# Altium footprint library IMX6UL_ALPHA_PCB.PcbLib: 56 footprints (part 1 of 4)
Each footprint in its own frame and in the unit in brackets; x right, y up, seen from the top. Pads: shape width x height; smd on the part's side, far side on the other; paste and mask are expansions set on the pad; w line width, h text height; cw(c..) or ccw(c..) is an arc to the next point about the centre after c.
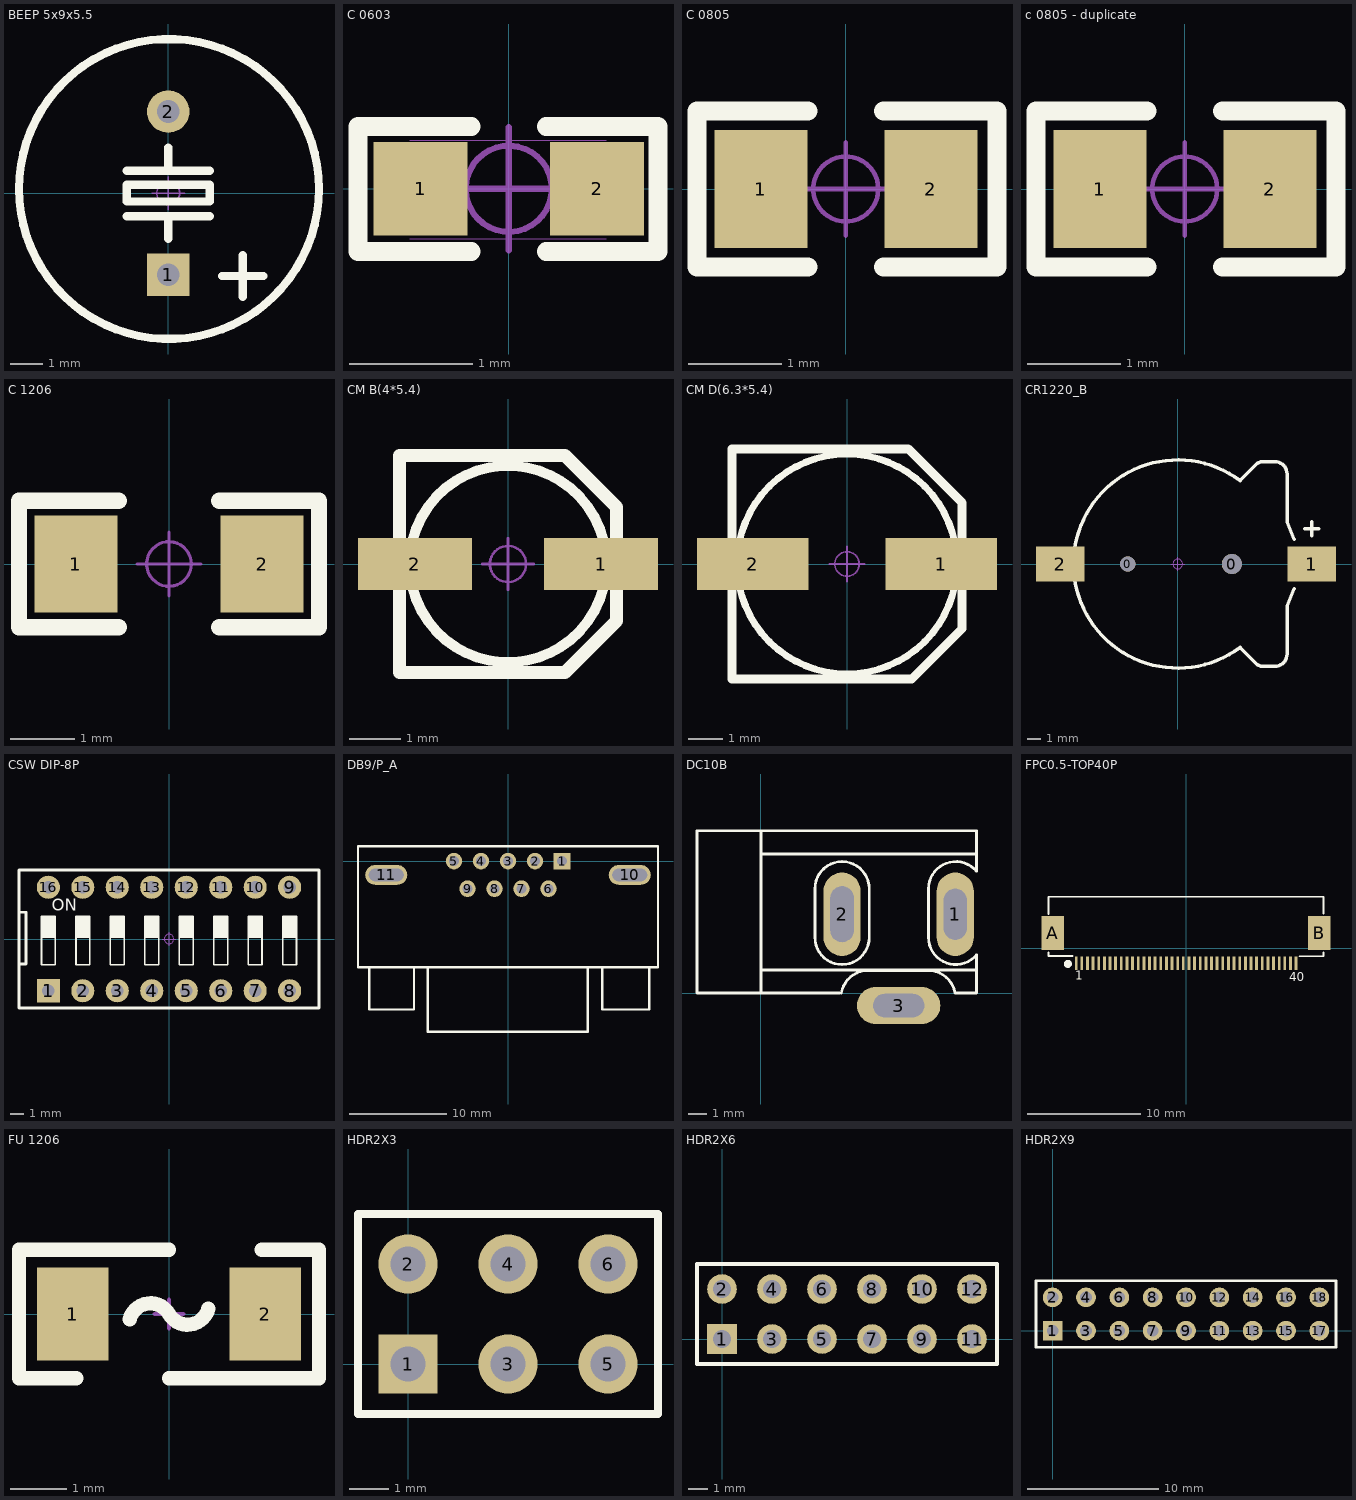
[diagram p0: the footprints below, top view; thin cyan lines are the x and y axes]

## BEEP 5x9x5.5 [mm]
pads (2):
  rect 1.3x1.3 hole 0.7: 1(0,-2.5)
  round 1.3 hole 0.7: 2(0,2.5)
Top Overlay:
  circle w0.254: c0.023,0.127 r4.6
  lines w0.254: -1.27,-0.709 1.27,-0.709 ; -1.27,0.685 1.27,0.685 ; 0,-1.397 0,-0.709 ; 0,0.812 0,1.397 ; 1.651,-2.54 2.921,-2.54 ; 2.286,-3.175 2.286,-1.905 ; -1.27,-0.254 1.27,-0.254 1.27,0.254 -1.27,0.254 -1.27,-0.254
Mechanical 15:
  circle w0.05: c0,0 r0.35
  lines w0.05: -0.5,0 0.5,0 ; 0,-0.5 0,0.5
3D body "BEEP 5x9x5.5.STEP": height 5.45, standoff -3.55, extent -4.5,-4.5 4.5,4.5

## C 0603 [mil]
pads (2):
  rect 30x30 smd: 1(-28.25,0) 2(28.25,0)
Top Overlay:
  lines w6: -12,-20.06 -48.25,-20.06 -48.25,19.94 -12,19.94 ; 12,-20.06 47.75,-20.06 47.75,19.94 12,19.94
Mechanical 13:
  lines w0.39: -31.75,-16 31.25,-16 ; -31.75,15.5 31.25,15.5
Mechanical 15:
  circle w1.97: c0,0 r13.78
  lines w1.97: -19.68,0 19.68,0 ; 0,-19.68 0,19.68
3D body "C 0603.STEP": height 31.89, standoff -0.39, extent -31.5,-16.14 31.5,16.14

## C 0805 [mm]
pads (2):
  rect 1x1.27 smd: 1(-0.914,0) 2(0.914,0)
Top Overlay:
  lines w0.203: -0.406,-0.838 -1.6,-0.838 -1.6,0.838 -0.406,0.838 ; 0.406,-0.838 1.626,-0.838 1.626,0.838 0.406,0.838
Mechanical 15:
  circle w0.05: c0,0 r0.35
  lines w0.05: -0.5,0 0.5,0 ; 0,-0.5 0,0.5
3D body "C 0805.STEP": height 0.51, standoff -0.01, extent -1,-0.61 1,0.61

## c 0805 - duplicate [mm]
pads (2):
  rect 1x1.27 smd: 1(-0.914,0) 2(0.914,0)
Top Overlay:
  lines w0.203: -0.406,-0.838 -1.6,-0.838 -1.6,0.838 -0.406,0.838 ; 0.406,-0.838 1.626,-0.838 1.626,0.838 0.406,0.838
Mechanical 15:
  circle w0.05: c0,0 r0.35
  lines w0.05: -0.5,0 0.5,0 ; 0,-0.5 0,0.5
3D body "C 0805.STEP": height 0.51, standoff -0.01, extent -1,-0.61 1,0.61

## C 1206 [mil]
pads (2):
  rect 51.18x60 smd: 1(-57.5,0) 2(57.5,0)
Top Overlay:
  lines w10: -31,-39 -92.52,-39 -92.52,39 -31,39 ; 31,-39 92.52,-39 92.52,39 31,39
Mechanical 15:
  circle w1.97: c0,0 r13.78
  lines w1.97: -19.68,0 19.68,0 ; 0,-19.68 0,19.68
3D body "C 1206.STEP": height 47.64, standoff -0.39, extent -62.99,-31.89 62.99,31.89

## CM B(4*5.4) [mm]
pads (2):
  rect 2.2x1 smd: 1(1.8,0) 2(-1.8,0)
Top Overlay:
  circle w0.2: c0,0 r1.9
  lines w0.254: -2.1,-2.1 -2.1,2.1 1.1,2.1 2.1,1.1 2.1,-1.1 1.1,-2.1 -2.1,-2.1
Mechanical 15:
  circle w0.05: c0,0 r0.35
  lines w0.05: -0.5,0 0.5,0 ; 0,-0.5 0,0.5
3D body "CM B(4X5.4).STEP": height 5.4, standoff -0.01, extent -2.3,-2.125 2.3,2.175

## CM D(6.3*5.4) [mm]
pads (2):
  rect 3.2x1.5 smd: 1(2.7,0) 2(-2.7,0)
Top Overlay:
  circle w0.2: c0,0 r3.15
  lines w0.254: -3.3,-3.3 1.85,-3.3 3.3,-1.85 3.3,1.75 1.75,3.3 -3.3,3.3 -3.3,-3.3
Mechanical 15:
  circle w0.05: c0,0 r0.35
  lines w0.05: -0.5,0 0.5,0 ; 0,-0.5 0,0.5
3D body "CM D(6.3X5.4).STEP": height 5.4, standoff -0.01, extent -3.5,-3.3 3.5,3.3

## CR1220_B [mm]
pads (4):
  round 1.1 hole 1.1: 0(-3.6,0)
  round 1.45 hole 1.45: 0(3.9,0)
  rect 3.5x2.5 smd: 1(9.652,0) 2(-8.458,0)
Top Overlay:
  lines w0.254: 4.5,-6 cw(c0,0) 4.5,6 ; 4.572,-6.096 4.826,-6.35 5.662,-7.186 ccw(c6.096,-6.753) 6.096,-7.366 7.007,-7.366 ccw(c7.007,-6.499) 7.874,-6.499 7.874,-3.048 8.382,-1.778 ; 4.572,6.096 4.826,6.35 5.662,7.186 cw(c6.096,6.753) 6.096,7.366 7.007,7.366 cw(c7.007,6.499) 7.874,6.499 7.874,3.048 8.382,1.778 ; 9.144,2.54 10.16,2.54 ; 9.652,2.032 9.652,3.048
Mechanical 15:
  circle w0.05: c0,0 r0.35
  lines w0.05: -0.5,0 0.5,0 ; 0,-0.5 0,0.5
3D body "CR1220_B.STEP": height 4.05, standoff -0.85, extent -9.416,-7.45 10.34,7.45

## CSW DIP-8P [mm]
pads (16):
  rect 1.7x1.7 hole 0.9: 1(-8.89,-3.81)
  round 1.7 hole 0.9: 2(-6.35,-3.81) 3(-3.81,-3.81) 4(-1.27,-3.81) 5(1.27,-3.81) 6(3.81,-3.81) 7(6.35,-3.81) 8(8.89,-3.81) 9(8.89,3.81) 10(6.35,3.81) 11(3.81,3.81) 12(1.27,3.81) 13(-1.27,3.81) 14(-3.81,3.81) 15(-6.35,3.81) 16(-8.89,3.81)
Top Overlay:
  rectangle: 5.842,0.127 6.858,1.651
  rectangle: -9.398,0.127 -8.382,1.651
  rectangle: -6.858,0.127 -5.842,1.651
  rectangle: -4.318,0.127 -3.302,1.651
  rectangle: -1.778,0.127 -0.762,1.651
  rectangle: 0.762,0.127 1.778,1.651
  rectangle: 3.302,0.127 4.318,1.651
  rectangle: 8.382,0.127 9.398,1.651
  lines w0.127: -9.398,0.127 -8.382,0.127 ; -6.858,0.127 -5.842,0.127 ; -4.318,0.127 -3.302,0.127 ; -1.778,0.127 -0.762,0.127 ; 0.762,0.127 1.778,0.127 ; 3.302,0.127 4.318,0.127 ; 5.842,0.127 6.858,0.127 ; 8.382,0.127 9.398,0.127 ; -9.398,-1.905 -9.398,1.651 -8.382,1.651 -8.382,-1.905 -9.398,-1.905 ; -6.858,-1.905 -6.858,1.651 -5.842,1.651 -5.842,-1.905 -6.858,-1.905 ; -4.318,-1.905 -4.318,1.651 -3.302,1.651 -3.302,-1.905 -4.318,-1.905 ; -1.778,-1.905 -1.778,1.651 -0.762,1.651 -0.762,-1.905 -1.778,-1.905 ; 0.762,-1.905 0.762,1.651 1.778,1.651 1.778,-1.905 0.762,-1.905 ; 3.302,-1.905 3.302,1.651 4.318,1.651 4.318,-1.905 3.302,-1.905 ; 5.842,-1.905 6.858,-1.905 6.858,1.651 5.842,1.651 5.842,-1.905 ; 8.382,-1.905 8.382,1.651 9.398,1.651 9.398,-1.905 8.382,-1.905
  lines w0.2: -11.049,-5.08 -11.049,5.08 11.049,5.08 11.049,-5.08 -11.049,-5.08
  lines w0.203: -11.049,-1.841 -10.541,-1.841 -10.541,1.969 -11.049,1.968
  text "ON" at -8.636,1.778 h1.52
Mechanical 15:
  circle w0.05: c0,0 r0.35
  lines w0.05: -0.5,0 0.5,0 ; 0,-0.5 0,0.5
3D body "CSW DIP-8P.STEP": height 6.65, standoff -3.15, extent -10.94,-4.95 10.94,4.95

## DB9/P_A [mm]
pads (11):
  rect 1.7x1.7 hole 1: 1(5.546,0)
  round 1.7 hole 1: 2(2.773,0) 3(0,0) 4(-2.773,0) 5(-5.546,0) 6(4.155,-2.84) 7(1.385,-2.84) 8(-1.385,-2.84) 9(-4.155,-2.84)
  oval 4.318x2.032 hole 1.27 slot 3.556 at 0 deg: 10(12.5,-1.42) 11(-12.5,-1.42)
Top Overlay:
  lines w0.254: -14.224,-10.922 -14.224,-15.24 -9.652,-15.24 -9.652,-10.922 ; -8.225,-10.922 -8.225,-17.526 8.175,-17.526 8.175,-10.922 ; 9.652,-10.922 9.652,-15.24 14.478,-15.24 14.478,-10.922 ; -15.4,-10.922 -15.4,1.524 15.4,1.524 15.4,-10.922 -15.4,-10.922
Mechanical 15:
  circle w0.05: c0,0 r0.35
  lines w0.05: -0.5,0 0.5,0 ; 0,-0.5 0,0.5
3D body "DB9 ĸ_A.STEP": height 12.65, standoff -3.16, extent -15.45,-17.247 15.45,1.253

## DC10B [mil]
pads (3):
  oval 80x180 hole 50 slot 110 at 90 deg: 1(419.09,170)
  oval 80x180 hole 50 slot 120 at 90 deg: 2(175,170)
  oval 180x80 hole 50 slot 110 at 0 deg: 3(297.05,-26.85)
Top Overlay:
  lines w6: 0,50 465,50 ; 0,300 460.13,300 464.25,300 ; 5,350 -15,350 -137.8,350 -137.8,0 0,0 ; 169,0 0,0 ; 173.37,0.16 cw(c231,-10) 231,48.52 361,48.52 cw(c361,-10) 418.63,0.16 ; 420,0 465,0 465,80 ; 464.83,82.38 cw(c420,120) 361.48,120 361.48,225 cw(c420,225) 464.83,262.62 465,350 0,350 0,0 ; 233.52,225 ccw(c175,225) 116.48,225 116.48,120 ccw(c175,120) 233.52,120 233.52,225 ; 233.52,225 233.52,225
3D body "dc-005.STEP": height 440.94, standoff -149.61, extent -131,-18.07 422.15,348.07

## FPC0.5-TOP40P [mm]
pads (42):
  rect 0.25x1.2 smd: 1(-9.737,-1.326) 2(-9.237,-1.326) 3(-8.737,-1.326) 4(-8.237,-1.326) 5(-7.737,-1.326) 6(-7.237,-1.326) 7(-6.737,-1.326) 8(-6.237,-1.326) 9(-5.737,-1.326) 10(-5.237,-1.326) 11(-4.737,-1.326) 12(-4.237,-1.326) 13(-3.737,-1.326) 14(-3.237,-1.326) 15(-2.737,-1.326) 16(-2.237,-1.326) 17(-1.737,-1.326) 18(-1.237,-1.326) 19(-0.737,-1.326) 20(-0.237,-1.326) 21(0.263,-1.326) 22(0.763,-1.326) 23(1.263,-1.326) 24(1.763,-1.326) 25(2.263,-1.326) 26(2.763,-1.326) 27(3.263,-1.326) 28(3.763,-1.326) 29(4.263,-1.326) 30(4.763,-1.326) 31(5.263,-1.326) 32(5.763,-1.326) 33(6.263,-1.326) 34(6.763,-1.326) 35(7.263,-1.326) 36(7.763,-1.326) 37(8.263,-1.326) 38(8.763,-1.326) 39(9.263,-1.326) 40(9.763,-1.326)
  rect 2x3 smd: A(-11.8,1.326) B(11.8,1.326)
Top Overlay:
  circle w0.356: c-10.474,-1.402 r0.178
  lines w0.127: -12.187,-0.697 -12.176,-0.709
  lines w0.152: -12.187,-0.709 -10.042,-0.709 ; -12.187,-0.697 -12.187,-0.361 ; -12.187,3.017 -12.187,4.541 12.187,4.541 12.187,3.043 ; 10.057,-0.717 12.187,-0.717 12.187,-0.361
  text "40" at 9.16,-2.926 h0.76
  text "1" at -9.839,-2.825 h0.76
3D body "FPC0.5 2H-S-W-40P.STEP": height 2, standoff -0.01, extent -12.084,-1.352 12.116,4.648

## FU 1206 [mil]
pads (2):
  rect 50x65 smd: 1(-67.5,0) 2(67.5,0)
Top Overlay:
  lines w10: -90,45 0,45 ; -65,-45 -105,-45 -105,45 -65,45 ; -27.48,-3.62 cw(c-12.99,-7.5) 0,0 ccw(c12.99,7.5) 27.48,3.62 ; 0,-45 90,-45 ; 65,-45 105,-45 105,45 65,45
Mechanical 15:
  lines w3: -10,0 10,0 ; 0,-10 0,10
3D body "FU 01206.STEP": height 34.25, standoff 0, extent -62.99,-31.89 62.99,31.89

## HDR2X3 [mm]
pads (6):
  rect 1.5x1.5 hole 0.9: 1(0,0)
  round 1.5 hole 0.9: 2(0,2.54) 3(2.54,0) 4(2.54,2.54) 5(5.08,0) 6(5.08,2.54)
Top Overlay:
  lines w0.2: 1.482,-1.27 6.35,-1.27 ; 6.35,-1.27 -1.27,-1.27 -1.27,3.81 6.35,3.81 6.35,-1.27

## HDR2X6 [mm]
pads (12):
  rect 1.5x1.5 hole 0.9: 1(0,0)
  round 1.5 hole 0.9: 2(0,2.54) 3(2.54,0) 4(2.54,2.54) 5(5.08,0) 6(5.08,2.54) 7(7.62,0) 8(7.62,2.54) 9(10.16,0) 10(10.16,2.54) 11(12.7,0) 12(12.7,2.54)
Top Overlay:
  lines w0.2: -1.27,-1.27 -1.27,3.81 13.97,3.81 13.97,-1.27 -1.27,-1.27

## HDR2X9 [mm]
pads (18):
  rect 1.5x1.5 hole 0.9: 1(0,0)
  round 1.5 hole 0.9: 2(0,2.54) 3(2.54,0) 4(2.54,2.54) 5(5.08,0) 6(5.08,2.54) 7(7.62,0) 8(7.62,2.54) 9(10.16,0) 10(10.16,2.54) 11(12.7,0) 12(12.7,2.54) 13(15.24,0) 14(15.24,2.54) 15(17.78,0) 16(17.78,2.54) 17(20.32,0) 18(20.32,2.54)
Top Overlay:
  lines w0.2: -1.27,-1.27 -1.27,3.81 21.59,3.81 21.59,-1.27 -1.27,-1.27